# EAGLE library part BQ24313 (library PX4FMUlite_V0_1)
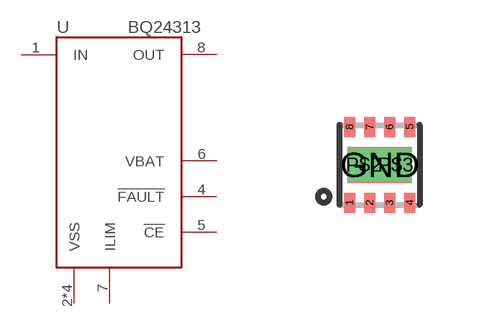
[diagram p5: symbol with the pads of QFN8-DSG; footprint QFN8-DSG]

Designator prefix -

## BQ24313  [QFN8-DSG]
1  IN
2  VSS
4  !FAULT
5  !CE
6  VBAT
7  ILIM
8  OUT
GND  VSS
P$2  VSS
P$3  VSS

## Footprint QFN8-DSG (pad centres in mm)
smd 0.28 x 0.5: 1 -0.75,-0.95; 2 -0.25,-0.95; 3 0.25,-0.95; 4 0.75,-0.95; 5 0.75,0.95; 6 0.25,0.95; 7 -0.25,0.95; 8 -0.75,0.95
smd 1.6 x 0.9: GND 0,0
drill 0.3 square: P$2 -0.4,0; P$3 0.4,0